# Altium integrated library USB4085-GF-A_REVB.IntLib: 1 symbol
Pins are listed as number, name and electrical type; pins without a type are passive.

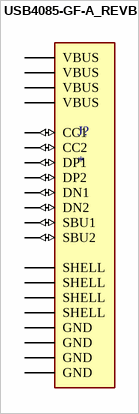
[diagram p0: symbol USB4085-GF-A_REVB]

## USB4085-GF-A_REVB
designator J?
USB-C (USB TYPE-C) USB 2.0 插座连接器 24 (16+8 Dummy) 位通孔、直角、低成本、3.46mm 外形、16 针、水平、顶部安装; MF: Global Connector Technology; MP: USB4085-GF-A
footprint GCT_USB4085-GF-A_REVB
pins: A1 GND (power), A4 VBUS (power), A5 CC1 (io), A6 DP1 (io), A7 DN1 (io), A8 SBU1 (io), A9 VBUS (power), A12 GND (power), B1 GND (power), B4 VBUS (power), B5 CC2 (io), B6 DP2 (io), B7 DN2 (io), B8 SBU2 (io), B9 VBUS (power), B12 GND (power), S1 SHELL, S2 SHELL, S3 SHELL, S4 SHELL